# EAGLE library part TPIC6595DWR (library halcyonmod_DigitalIC)
TPIC6595DWR - Power Logic Shift Reguster
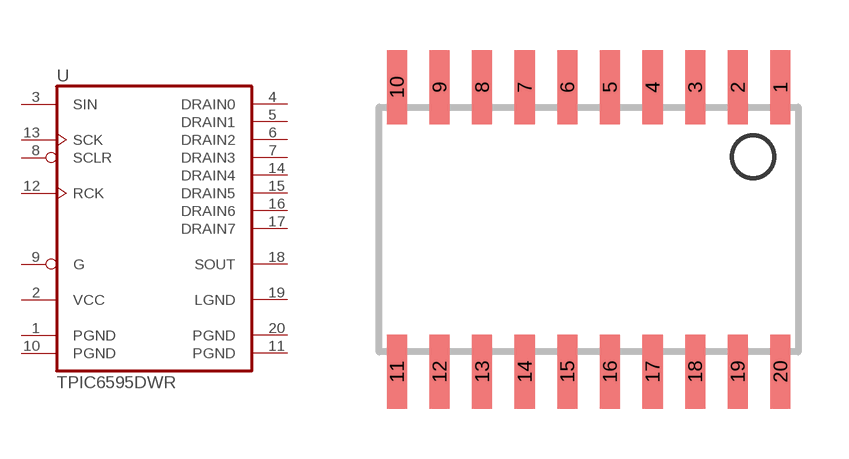
[diagram p1: symbol with the pads of SOIC-20; footprint SOIC-20]

Designator prefix -

## TPIC6595DWR  [SOIC-20]
1  PGND  pwr
2  VCC  pwr
3  SIN  in
4  DRAIN0  out
5  DRAIN1  out
6  DRAIN2  out
7  DRAIN3  out
8  SCLR  in
9  G  in
10  PGND  pwr
11  PGND  pwr
12  RCK  in
13  SCK  in
14  DRAIN4  out
15  DRAIN5  out
16  DRAIN6  out
17  DRAIN7  out
18  SOUT  out
19  LGND  pwr
20  PGND  pwr

## Footprint SOIC-20 (pad centres in mm)
smd 0.6 x 2.2: 1 5.715,4.235; 2 4.445,4.235; 3 3.175,4.235; 4 1.905,4.235; 5 0.635,4.235; 6 -0.635,4.235; 7 -1.905,4.235; 8 -3.175,4.235; 9 -4.445,4.235; 10 -5.715,4.235; 11 -5.715,-4.235; 12 -4.445,-4.235; 13 -3.175,-4.235; 14 -1.905,-4.235; 15 -0.635,-4.235; 16 0.635,-4.235; 17 1.905,-4.235; 18 3.175,-4.235; 19 4.445,-4.235; 20 5.715,-4.235